# Altium schematic symbol library TRS_JFET_N.SchLib: 1 symbol
Pins are listed as number, name and electrical type; pins without a type are passive.

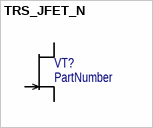
[diagram p0: symbol TRS_JFET_N]

## TRS_JFET_N
designator VT?  (value not drawn)
JFET N-канальный транзистор (дезигнаторы буквенные G/D/S); PartNumber: PartNumber
pins: D, G, S